# Altium footprint library HT1621B.PcbLib: 3 footprints
Each footprint in its own frame and in the unit in brackets; x right, y up, seen from the top. Pads: shape width x height; smd on the part's side, far side on the other; paste and mask are expansions set on the pad; w line width, h text height; cw(c..) or ccw(c..) is an arc to the next point about the centre after c.
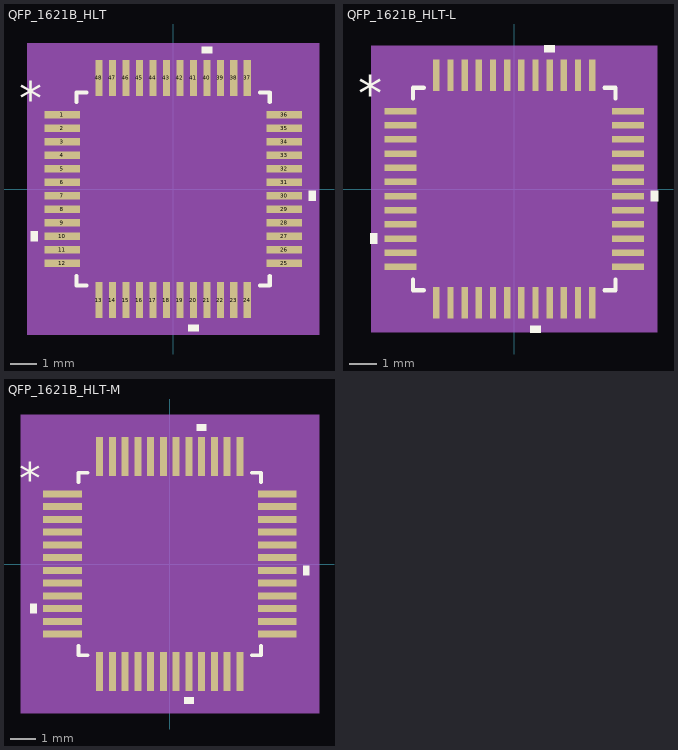
[diagram p0: the footprints below, top view; thin cyan lines are the x and y axes]

## QFP_1621B_HLT [mil]
pads (48):
  rect 53x11 smd paste+0 mask+0: 1(-164.5,110) 2(-164.5,90) 3(-164.5,70) 4(-164.5,50) 5(-164.5,30) 6(-164.5,10) 7(-164.5,-10) 8(-164.5,-30) 9(-164.5,-50) 10(-164.5,-70) 11(-164.5,-90) 12(-164.5,-110) 25(164.5,-110) 26(164.5,-90) 27(164.5,-70) 28(164.5,-50) 29(164.5,-30) 30(164.5,-10) 31(164.5,10) 32(164.5,30) 33(164.5,50) 34(164.5,70) 35(164.5,90) 36(164.5,110)
  rect 11x53 smd paste+0 mask+0: 13(-110,-164.5) 14(-90,-164.5) 15(-70,-164.5) 16(-50,-164.5) 17(-30,-164.5) 18(-10,-164.5) 19(10,-164.5) 20(30,-164.5) 21(50,-164.5) 22(70,-164.5) 23(90,-164.5) 24(110,-164.5) 37(110,164.5) 38(90,164.5) 39(70,164.5) 40(50,164.5) 41(30,164.5) 42(10,164.5) 43(-10,164.5) 44(-30,164.5) 45(-50,164.5) 46(-70,164.5) 47(-90,164.5) 48(-110,164.5)
Top Overlay:
  region: -201,-62.5 -211,-62.5 -211,-77.5 -201,-77.5
  region: 37.5,-201 22.5,-201 22.5,-211 37.5,-211
  region: 201,-2.5 211,-2.5 211,-17.5 201,-17.5
  region: 57.5,201 42.5,201 42.5,211 57.5,211
  lines w6: -143,-128.6 -143,-143 -128.6,-143 ; -143,128.6 -143,143 -128.6,143 ; 128.6,-143 143,-143 143,-128.6 ; 128.6,143 143,143 143,128.6
  text "*" at -228.5,110 h50
Mechanical 5:
  region: 216,-216 -216,-216 -216,216 216,216
Mechanical 13:
  drawing of 201 lines, arcs and shapes, not listed
  text "*" at -135.5,95 h50
Mechanical 15:
  region: -125.5,-148 -148,-148 -148,-125.5 -201,-125.5 -201,125.5 -148,125.5 -148,148 -125.5,148 -125.5,201 125.5,201 125.5,148 148,148 148,125.5 201,125.5 201,-125.5 148,-125.5 148,-148 125.5,-148 125.5,-201 -125.5,-201
  lines w6: -201,-125.5 -148,-125.5 -148,-148 -125.5,-148 -125.5,-201 125.5,-201 125.5,-148 148,-148 148,-125.5 201,-125.5 201,125.5 148,125.5 148,148 125.5,148 125.5,201 -125.5,201 -125.5,148 -148,148 -148,125.5 -201,125.5 -201,-125.5
3D body "QFP_1621B_HLT.step": height 63.11, standoff 0, extent -177.01,-177.01 177.01,177.01

## QFP_1621B_HLT-L [mil]
pads (48):
  rect 45x9 smd paste+0 mask+0: 1(-160.5,110) 2(-160.5,90) 3(-160.5,70) 4(-160.5,50) 5(-160.5,30) 6(-160.5,10) 7(-160.5,-10) 8(-160.5,-30) 9(-160.5,-50) 10(-160.5,-70) 11(-160.5,-90) 12(-160.5,-110) 25(160.5,-110) 26(160.5,-90) 27(160.5,-70) 28(160.5,-50) 29(160.5,-30) 30(160.5,-10) 31(160.5,10) 32(160.5,30) 33(160.5,50) 34(160.5,70) 35(160.5,90) 36(160.5,110)
  rect 9x45 smd paste+0 mask+0: 13(-110,-160.5) 14(-90,-160.5) 15(-70,-160.5) 16(-50,-160.5) 17(-30,-160.5) 18(-10,-160.5) 19(10,-160.5) 20(30,-160.5) 21(50,-160.5) 22(70,-160.5) 23(90,-160.5) 24(110,-160.5) 37(110,160.5) 38(90,160.5) 39(70,160.5) 40(50,160.5) 41(30,160.5) 42(10,160.5) 43(-10,160.5) 44(-30,160.5) 45(-50,160.5) 46(-70,160.5) 47(-90,160.5) 48(-110,160.5)
Top Overlay:
  region: -193,-62.5 -203,-62.5 -203,-77.5 -193,-77.5
  region: 37.5,-193 22.5,-193 22.5,-203 37.5,-203
  region: 193,-2.5 203,-2.5 203,-17.5 193,-17.5
  region: 57.5,193 42.5,193 42.5,203 57.5,203
  lines w6: -143,-127.6 -143,-143 -127.6,-143 ; -143,127.6 -143,143 -127.6,143 ; 127.6,-143 143,-143 143,-127.6 ; 127.6,143 143,143 143,127.6
  text "*" at -220.5,110 h50
Mechanical 5:
  region: 202,-202 -202,-202 -202,202 202,202
Mechanical 13:
  drawing of 197 lines, arcs and shapes, not listed
  text "*" at -135.5,95 h50
Mechanical 15:
  region: -118.5,-142 -142,-142 -142,-118.5 -187,-118.5 -187,118.5 -142,118.5 -142,142 -118.5,142 -118.5,187 118.5,187 118.5,142 142,142 142,118.5 187,118.5 187,-118.5 142,-118.5 142,-142 118.5,-142 118.5,-187 -118.5,-187
  lines w6: -187,-118.5 -142,-118.5 -142,-142 -118.5,-142 -118.5,-187 118.5,-187 118.5,-142 142,-142 142,-118.5 187,-118.5 187,118.5 142,118.5 142,142 118.5,142 118.5,187 -118.5,187 -118.5,142 -142,142 -142,118.5 -187,118.5 -187,-118.5
3D body "QFP_1621B_HLT.step": height 63.11, standoff 0, extent -177.01,-177.01 177.01,177.01

## QFP_1621B_HLT-M [mil]
pads (48):
  rect 61x11 smd paste+0 mask+0: 1(-168.5,110) 2(-168.5,90) 3(-168.5,70) 4(-168.5,50) 5(-168.5,30) 6(-168.5,10) 7(-168.5,-10) 8(-168.5,-30) 9(-168.5,-50) 10(-168.5,-70) 11(-168.5,-90) 12(-168.5,-110) 25(168.5,-110) 26(168.5,-90) 27(168.5,-70) 28(168.5,-50) 29(168.5,-30) 30(168.5,-10) 31(168.5,10) 32(168.5,30) 33(168.5,50) 34(168.5,70) 35(168.5,90) 36(168.5,110)
  rect 11x61 smd paste+0 mask+0: 13(-110,-168.5) 14(-90,-168.5) 15(-70,-168.5) 16(-50,-168.5) 17(-30,-168.5) 18(-10,-168.5) 19(10,-168.5) 20(30,-168.5) 21(50,-168.5) 22(70,-168.5) 23(90,-168.5) 24(110,-168.5) 37(110,168.5) 38(90,168.5) 39(70,168.5) 40(50,168.5) 41(30,168.5) 42(10,168.5) 43(-10,168.5) 44(-30,168.5) 45(-50,168.5) 46(-70,168.5) 47(-90,168.5) 48(-110,168.5)
Top Overlay:
  region: -209,-62.5 -219,-62.5 -219,-77.5 -209,-77.5
  region: 37.5,-209 22.5,-209 22.5,-219 37.5,-219
  region: 209,-2.5 219,-2.5 219,-17.5 209,-17.5
  region: 57.5,209 42.5,209 42.5,219 57.5,219
  lines w6: -143,-128.6 -143,-143 -128.6,-143 ; -143,128.6 -143,143 -128.6,143 ; 128.6,-143 143,-143 143,-128.6 ; 128.6,143 143,143 143,128.6
  text "*" at -236.5,110 h50
Mechanical 5:
  region: 234,-234 -234,-234 -234,234 234,234
Mechanical 13:
  drawing of 197 lines, arcs and shapes, not listed
  text "*" at -135.5,95 h50
Mechanical 15:
  region: -135.5,-158 -158,-158 -158,-135.5 -219,-135.5 -219,135.5 -158,135.5 -158,158 -135.5,158 -135.5,219 135.5,219 135.5,158 158,158 158,135.5 219,135.5 219,-135.5 158,-135.5 158,-158 135.5,-158 135.5,-219 -135.5,-219
  lines w6: -219,-135.5 -158,-135.5 -158,-158 -135.5,-158 -135.5,-219 135.5,-219 135.5,-158 158,-158 158,-135.5 219,-135.5 219,135.5 158,135.5 158,158 135.5,158 135.5,219 -135.5,219 -135.5,158 -158,158 -158,135.5 -219,135.5 -219,-135.5
3D body "QFP_1621B_HLT.step": height 63.11, standoff 0, extent -177.01,-177.01 177.01,177.01